# Altium footprint library Biblio_eddy.PcbLib: 3 footprints
Each footprint in its own frame and in the unit in brackets; x right, y up, seen from the top. Pads: shape width x height; smd on the part's side, far side on the other; paste and mask are expansions set on the pad; w line width, h text height; cw(c..) or ccw(c..) is an arc to the next point about the centre after c.
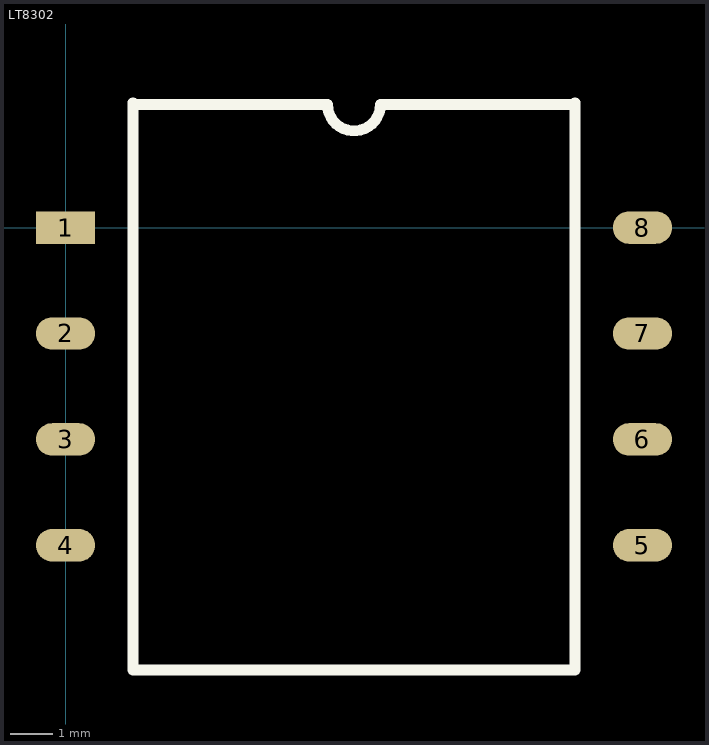
[diagram p0: the footprints below, top view; thin cyan lines are the x and y axes]

## LT8302 [mil]
pads (8):
  rect 55x30 smd: 1(0,0)
  oval 55x30 smd: 2(0,-98) 3(0,-196) 4(0,-294) 5(534,-294) 6(534,-196) 7(534,-98) 8(534,0)
Top Overlay:
  lines w10: 62.5,114 242.5,114 ccw(c267,114) 291.5,114 471.5,114 ; 62.5,115.5 62.5,-147 62.5,-409.5 471.5,-409.5 471.5,-147 471.5,115.5

## PCBComponent_1 [mil]

## PCBComponent_1 - duplicate [mil]